# Altium integrated library Big_Library_Logic.IntLib: 1 symbol
Pins are listed as number, name and electrical type; pins without a type are passive.

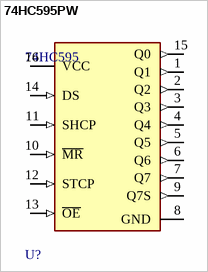
[diagram p0: symbol 74HC595PW]

## 74HC595PW
designator U?, comment 74HC595
IC SHIFT REGISTER 8BIT 16TSSOP; ComponentLink1Description: Link
footprint FP-SOT403-1-IPC_A
footprint FP-SOT403-1-IPC_B
footprint FP-SOT403-1-IPC_C
footprint FP-SOT403-1-MFG
footprint SOIC-16 (SOIC, 16-Leads, Body 9.90x3.90mm, Pitch 1.27mm, IPC Medium Density)
footprint TI TSSOP-16 PW0016A (TSSOP, 16-Leads, Body 5.00x4.40mm, Pitch 0.65mm, IPC Medium Density)
pins: 1 Q1 (out), 2 Q2 (out), 3 Q3 (out), 4 Q4 (out), 5 Q5 (out), 6 Q6 (out), 7 Q7 (out), 8 GND (power), 9 Q7S (out), 10 ~{MR} (in), 11 SHCP (in), 12 STCP (in), 13 ~{OE} (in), 14 DS (in), 15 Q0 (out), 16 VCC (power)